# Altium footprint library TO-277A(SMPC).PcbLib: 1 footprints
Each footprint in its own frame and in the unit in brackets; x right, y up, seen from the top. Pads: shape width x height; smd on the part's side, far side on the other; paste and mask are expansions set on the pad; w line width, h text height; cw(c..) or ccw(c..) is an arc to the next point about the centre after c.
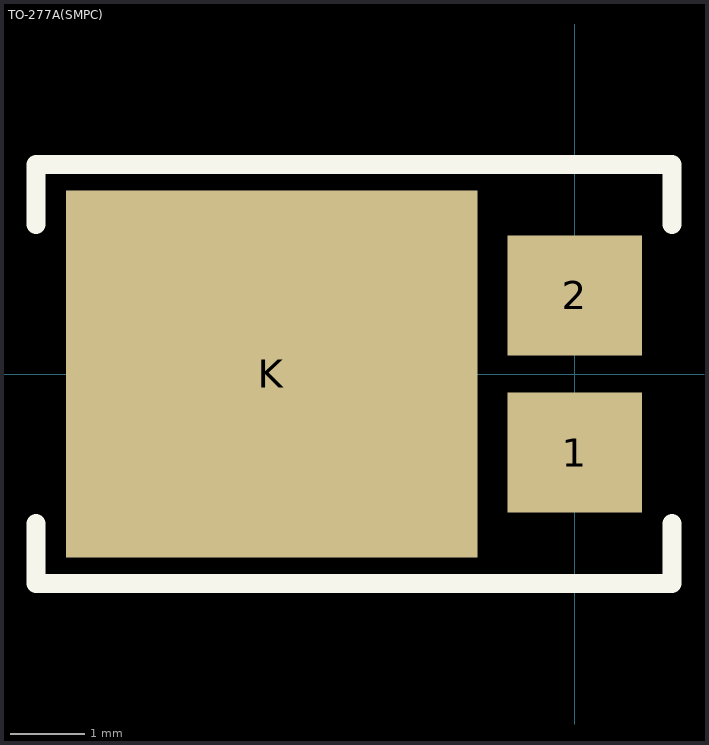
[diagram p0: the footprint, top view; thin cyan lines are the x and y axes]

## TO-277A(SMPC) [mm]
pads (3):
  rect 1.8x1.6 smd: 1(0,-1.05) 2(0,1.05)
  rect 5.5x4.9 smd: K(-4.05,0)
Top Overlay:
  lines w0.254: -7.2,-2 -7.2,-2.8 1.3,-2.8 1.3,-2 ; -7.2,2 -7.2,2.8 1.3,2.8 1.3,2
3D body: height 1.2, standoff 0, extent -6.275,-2.375 0.375,2.375